# Altium footprint library Basic.PcbLib: 43 footprints (part 2 of 3)
Each footprint in its own frame and in the unit in brackets; x right, y up, seen from the top. Pads: shape width x height; smd on the part's side, far side on the other; paste and mask are expansions set on the pad; w line width, h text height; cw(c..) or ccw(c..) is an arc to the next point about the centre after c.
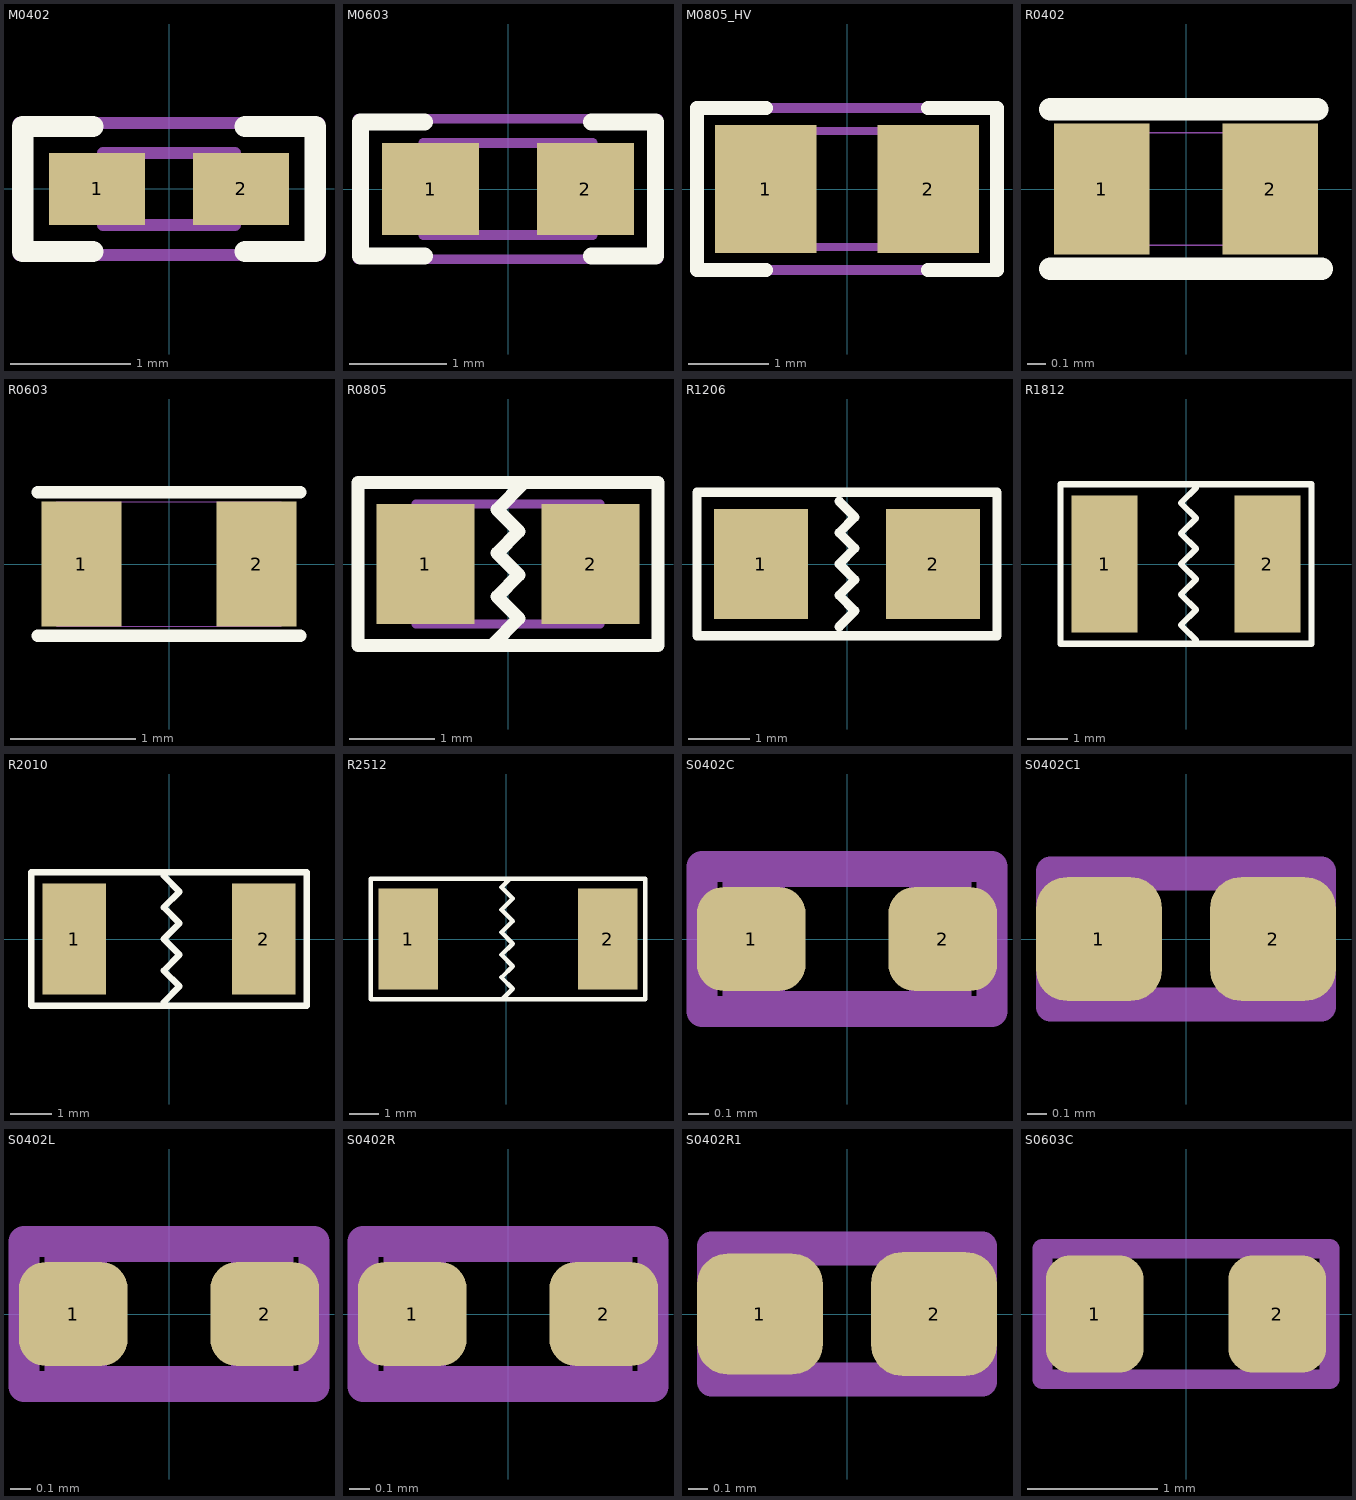
[diagram p1: the footprints below, top view; thin cyan lines are the x and y axes]

## M0402 [mm]
pads (2):
  rect 0.8x0.6 smd: 1(-0.6,0) 2(0.6,0)
Top Overlay:
  lines w0.178: -0.635,-0.521 -1.219,-0.521 -1.219,0.521 -0.635,0.521 ; 0.635,-0.521 1.219,-0.521 1.219,0.521 0.635,0.521
Top 3D Body:
  lines w0.1: -0.35,-0.3 -0.35,0.3 ; 0.35,-0.3 0.35,0.3 ; -0.55,-0.3 -0.55,0.3 0.55,0.3 0.55,-0.3 -0.55,-0.3
Top Component Outline:
  lines w0.1: -1.25,-0.55 1.25,-0.55 1.25,0.55 -1.25,0.55 -1.25,-0.55
3D body: height 0.6, standoff 0, extent -0.549,-0.299 -0.351,0.299
3D body: height 0.6, standoff 0, extent -0.349,-0.299 0.349,0.299
3D body: height 0.6, standoff 0, extent 0.351,-0.299 0.549,0.299

## M0603 [mm] "0603 from SM-752 data"
height 0.85
pads (2):
  rect 1x0.95 smd: 1(-0.8,0) 2(0.8,0)
Top Overlay:
  lines w0.178: -0.864,-0.691 -1.524,-0.691 -1.524,0.693 -0.864,0.693 ; 0.864,-0.691 1.524,-0.691 1.524,0.693 0.864,0.693
Top 3D Body:
  lines w0.1: -0.55,-0.475 -0.55,0.475 ; 0.55,-0.475 0.55,0.475 ; -0.875,-0.475 -0.875,0.475 0.875,0.475 0.875,-0.475 -0.875,-0.475
Top Component Outline:
  lines w0.1: -1.55,-0.725 1.55,-0.725 1.55,0.725 -1.55,0.725 -1.55,-0.725
3D body: height 0.85, standoff 0, extent 0.551,-0.474 0.874,0.474
3D body: height 0.85, standoff 0, extent -0.549,-0.474 0.549,0.474
3D body: height 0.85, standoff 0, extent -0.874,-0.474 -0.551,0.474

## M0805_HV [mil]
pads (2):
  rect 50x63 smd: 1(-40,0) 2(40,0)
Top Overlay:
  lines w7: -40,-40 -74,-40 -74,0 -74,40 -40,40 ; 40,-40 74,-40 74,0 74,40 40,40
Top 3D Body:
  lines w3.94: -25.59,-28.54 -25.59,28.54 ; 25.59,-28.54 25.59,28.54 ; -43.31,-28.54 43.31,-28.54 43.31,28.54 -43.31,28.54 -43.31,-28.54
Top Component Outline:
  lines w5: -74,-40 -74,40 74,40 74,-40 -74,-40
3D body: height 43.31, standoff 0, extent -43.29,-28.52 -25.61,28.52
3D body: height 43.31, standoff 0, extent -25.57,-28.52 25.57,28.52
3D body: height 43.31, standoff 0, extent 25.61,-28.52 43.29,28.52

## R0402 [mm]
pads (2):
  rect 0.51x0.7 smd mask+0.05: 1(-0.45,0) 2(0.45,0)
Top Overlay:
  lines w0.12: -0.725,-0.425 0.725,-0.425 ; -0.725,0.425 0.7,0.425
Bottom 3D Body:
  lines w0.01: -0.45,-0.3 -0.45,0.3 0.45,0.3 0.45,-0.3 -0.45,-0.3
3D body "R0402.STEP": height 0.34, standoff 0, extent -0.52,-0.3 0.52,0.3
3D body: height 0.4, standoff 0, extent -0.455,-0.305 0.455,0.305

## R0603 [mm]
pads (2):
  rect 0.64x1 smd mask+0.05: 1(-0.7,0) 2(0.7,0)
Top Overlay:
  lines w0.1: -1.05,-0.575 1.05,-0.575 ; -1.05,0.575 1.05,0.575
Top Paste:
  rectangle: 0.38,-0.5 1.02,0.5
  rectangle: -1.02,-0.5 -0.38,0.5
Bottom 3D Body:
  lines w0.01: -0.9,-0.5 0.9,-0.5 0.9,0.5 -0.9,0.5 -0.9,-0.5
3D body "R0603.STEP": height 0.56, standoff 0, extent -0.85,-0.4 0.85,0.4
3D body: height 0.55, standoff 0, extent -0.905,-0.505 0.905,0.505

## R0805 [mil] "Chip Resistor; Body 80x50mil (2.0 x 1.3 mm)"
height 25.59
pads (2):
  rect 45x55 smd: 1(-38,0) 2(38,0)
Top Overlay:
  lines w6: -7.24,-37.24 5,-25 -5,-15 5,-5 -5,5 5,15 -5,25 7.24,37.24 ; -68.9,-37.4 68.9,-37.4 68.9,37.4 -68.9,37.4 -68.9,-37.4
Top 3D Body:
  lines w3.94: -42.32,-27.56 42.32,-27.56 42.32,27.56 -42.32,27.56 -42.32,-27.56
3D body "User Library-RESC2012X05N.STEP": height 17.76, standoff 0, extent -38,-24.61 40.74,24.61

## R1206 [mil] "Chip Resistor; Body 120x60mil (3.2 x 1.6 mm )"
height 27.95
pads (2):
  rect 60x70 smd: 1(-55,0) 2(55,0)
Top Overlay:
  lines w6: -5,-40 5,-30 -5,-20 5,-10 -5,0 5,10 -5,20 5,30 -5,40 ; -95.87,-45.91 -95.87,45.91 95.87,45.91 95.87,-45.91 -95.87,-45.91
3D body "User Library-res1206-1.STEP": height 21.65, standoff 0, extent -62.99,-31.5 62.99,31.5

## R1812 [mil] "Chip Resistor, Body 180x120mil (4.5x3.2mm)"
height 0.71
pads (2):
  rect 65x135 smd: 1(-80,0) 2(80,0)
Top Overlay:
  lines w6: 10,-75 -5,-60 10,-45 -5,-30 10,-15 -5,0 10,15 -5,30 10,45 -5,60 10,75 ; -123.39,-78.39 -123.39,78.39 123.39,78.39 123.39,-78.39 -123.39,-78.39
3D body "SW3dPS-1812 SMD Resistor.STEP": height 63.07, standoff 0, extent -86.24,-58.64 90.93,67.34

## R2010 [mil] "Chip Resistor, Body 200x100mil (5.0x2.5mm)"
height 0.71
pads (2):
  rect 60x105 smd: 1(-90,0) 2(90,0)
Top Overlay:
  lines w6: -5,-60 10,-45 -5,-30 10,-15 -5,0 10,15 -5,30 10,45 -5,60 ; -131,-63.5 131,-63.5 131,63.5 -131,63.5 -131,-63.5
3D body "User Library-res2010.STEP": height 24.44, standoff 0, extent -119.11,-54.15 117.11,52.15

## R2512 [mm]
pads (2):
  rect 2x3.4 smd: 1(-3.302,0) 2(3.429,0)
Top Overlay:
  lines w0.152: -0.127,-2.032 0.225,-1.68 -0.156,-1.299 0.225,-0.918 -0.156,-0.537 0.225,-0.156 -0.156,0.225 0.225,0.606 -0.156,0.987 0.225,1.368 -0.156,1.749 0.127,2.032 ; -4.572,-2.032 4.699,-2.032 4.699,2.032 -4.572,2.032 -4.572,-2.032
3D body "User Library-RESC6432X06.STEP": height 0.6, standoff 0, extent -3.073,-1.6 3.327,1.6

## S0402C [mm]
pads (2):
  rrect50% 0.524x0.5 smd: 1(-0.462,0) 2(0.462,0)
Top 3D Body:
  lines w0.1: -0.35,-0.3 -0.35,0.3 ; 0.35,-0.3 0.35,0.3 ; -0.55,-0.3 -0.55,0.3 0.55,0.3 0.55,-0.3 -0.55,-0.3
Top Component Outline:
  lines w0.15: -0.7,-0.35 0.7,-0.35 0.7,0.35 -0.7,0.35 -0.7,-0.35
3D body: height 0.6, standoff 0, extent -0.549,-0.299 -0.351,0.3
3D body: height 0.6, standoff 0, extent -0.349,-0.299 0.349,0.299
3D body: height 0.6, standoff 0, extent 0.351,-0.299 0.549,0.299

## S0402C1 [mm]
pads (2):
  rrect50% 0.65x0.64 smd: 1(-0.45,0) 2(0.45,0)
Top 3D Body:
  lines w0.1: -0.35,-0.3 -0.35,0.3 ; 0.35,-0.3 0.35,0.3 ; -0.55,-0.3 0.55,-0.3 0.55,0.3 -0.55,0.3 -0.55,-0.3
Top Component Outline:
  lines w0.15: -0.7,-0.35 -0.7,0.35 0.7,0.35 0.7,-0.35 -0.7,-0.35
3D body: height 0.6, standoff 0, extent 0.351,-0.299 0.549,0.299
3D body: height 0.6, standoff 0, extent -0.349,-0.299 0.349,0.299
3D body: height 0.6, standoff 0, extent -0.549,-0.299 -0.351,0.3

## S0402L [mm]
pads (2):
  rrect50% 0.524x0.5 smd: 1(-0.462,0) 2(0.462,0)
Top 3D Body:
  lines w0.1: -0.35,-0.3 -0.35,0.3 ; 0.35,-0.3 0.35,0.3 ; -0.55,-0.3 -0.55,0.3 0.55,0.3 0.55,-0.3 -0.55,-0.3
Top Component Outline:
  lines w0.15: -0.7,-0.35 0.7,-0.35 0.7,0.35 -0.7,0.35 -0.7,-0.35
3D body: height 0.6, standoff 0, extent -0.549,-0.299 -0.351,0.299
3D body: height 0.6, standoff 0, extent -0.349,-0.299 0.349,0.299
3D body: height 0.6, standoff 0, extent 0.351,-0.299 0.549,0.299

## S0402R [mm]
pads (2):
  rrect50% 0.524x0.5 smd: 1(-0.462,0) 2(0.462,0)
Top 3D Body:
  lines w0.1: -0.35,-0.3 -0.35,0.3 ; 0.35,-0.3 0.35,0.3 ; -0.55,-0.3 -0.55,0.3 0.55,0.3 0.55,-0.3 -0.55,-0.3
Top Component Outline:
  lines w0.15: -0.7,-0.35 0.7,-0.35 0.7,0.35 -0.7,0.35 -0.7,-0.35
3D body: height 0.6, standoff 0, extent -0.549,-0.299 -0.351,0.299
3D body: height 0.6, standoff 0, extent -0.349,-0.299 0.349,0.299
3D body: height 0.6, standoff 0, extent 0.351,-0.299 0.549,0.299

## S0402R1 [mm]
pads (2):
  rrect50% 0.65x0.624 smd: 1(-0.45,0)
  rrect50% 0.65x0.64 smd: 2(0.45,0)
Top 3D Body:
  lines w0.1: -0.35,-0.3 -0.35,0.3 ; 0.35,-0.3 0.35,0.3 ; -0.55,-0.3 0.55,-0.3 0.55,0.3 -0.55,0.3 -0.55,-0.3
Top Component Outline:
  lines w0.15: -0.7,-0.35 -0.7,0.35 0.7,0.35 0.7,-0.35 -0.7,-0.35
3D body: height 0.6, standoff 0, extent 0.351,-0.299 0.549,0.299
3D body: height 0.6, standoff 0, extent -0.349,-0.299 0.349,0.299
3D body: height 0.6, standoff 0, extent -0.549,-0.299 -0.351,0.299

## S0603C [mm]
pads (2):
  rrect50% 0.75x0.9 smd: 1(-0.7,0) 2(0.7,0)
Top Component Outline:
  lines w0.15: -1.1,-0.5 1.1,-0.5 1.1,0.5 -1.1,0.5 -1.1,-0.5
3D body: height 0.85, standoff 0, extent 0.551,-0.474 0.874,0.474
3D body: height 0.85, standoff 0, extent -0.549,-0.474 0.549,0.474
3D body: height 0.85, standoff 0, extent -0.874,-0.474 -0.551,0.474